# Altium footprint library Oscillator_Pcb.PcbLib: 1 footprints
Each footprint in its own frame and in the unit in brackets; x right, y up, seen from the top. Pads: shape width x height; smd on the part's side, far side on the other; paste and mask are expansions set on the pad; w line width, h text height; cw(c..) or ccw(c..) is an arc to the next point about the centre after c.
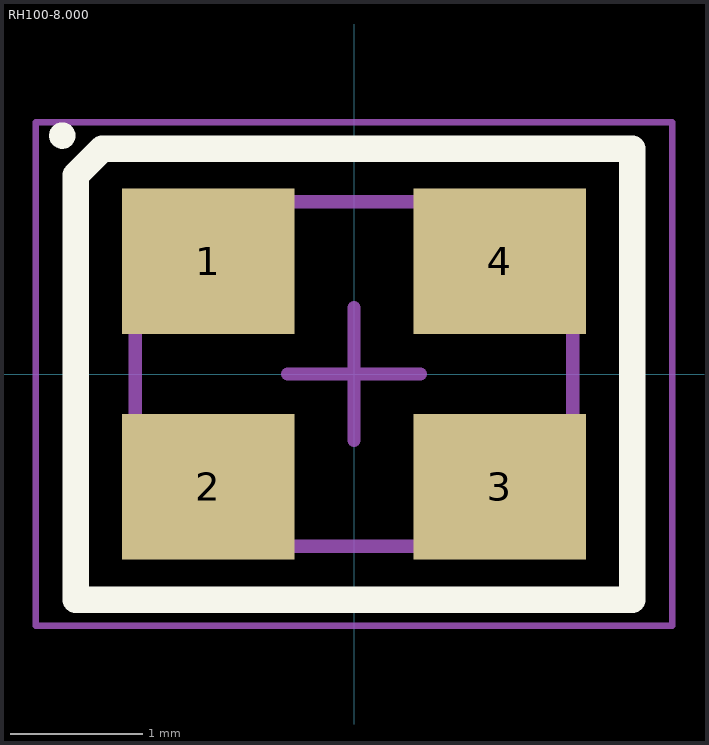
[diagram p0: the footprint, top view; thin cyan lines are the x and y axes]

## RH100-8.000 [mm] "Crystal, 4-Leads, Body 2.50x3.20mm, Pitch 2.20mm, IPC Medium Density"
height 1
pads (4):
  rect 1.3x1.1 smd: 1(-1.1,0.85) 2(-1.1,-0.85) 3(1.1,-0.85) 4(1.1,0.85)
Top Overlay:
  circle w0.1: c-2.2,1.798 r0.05
  lines w0.2: -2.1,-1.702 2.1,-1.702 2.1,1.698 -1.1,1.698 -1.9,1.698 -2.1,1.498 -2.1,-1.702
Mechanical 13:
  lines w0.1: -1.65,-1.3 -1.65,1.3 1.65,1.3 1.65,-1.3 -1.65,-1.3
Mechanical 15:
  lines w0.05: -2.4,-1.9 -2.4,1.9 2.4,1.9 2.4,-1.9 -2.4,-1.9
  lines w0.1: -0.5,0 0.5,0 ; 0,-0.5 0,0.5
3D body "Abracon ASE.STEP": height 1.2, standoff 0, extent -1.625,-1.275 1.625,1.275